# Altium schematic symbol library BBCMP-P1X8.SchLib: 1 symbol
Pins are listed as number, name and electrical type; pins without a type are passive.

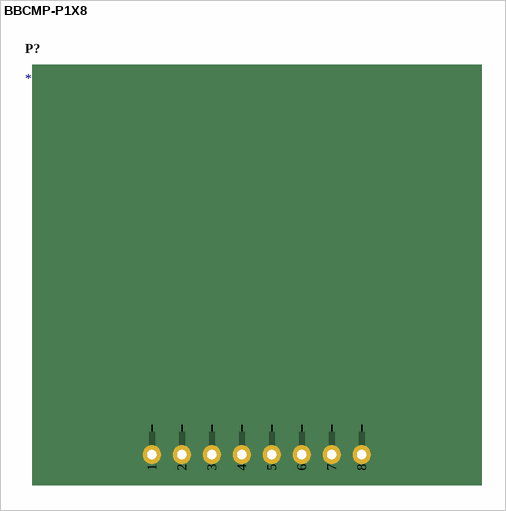
[diagram p0: symbol BBCMP-P1X8]

## BBCMP-P1X8
designator P?  (no BOM)
BBCMP-P1X8
pins: 1, 2, 3, 4, 5, 6, 7, 8